# Altium footprint library Empreintes_LIB_atelier1A.PcbLib: 73 footprints (part 5 of 5)
Each footprint in its own frame and in the unit in brackets; x right, y up, seen from the top. Pads: shape width x height; smd on the part's side, far side on the other; paste and mask are expansions set on the pad; w line width, h text height; cw(c..) or ccw(c..) is an arc to the next point about the centre after c.
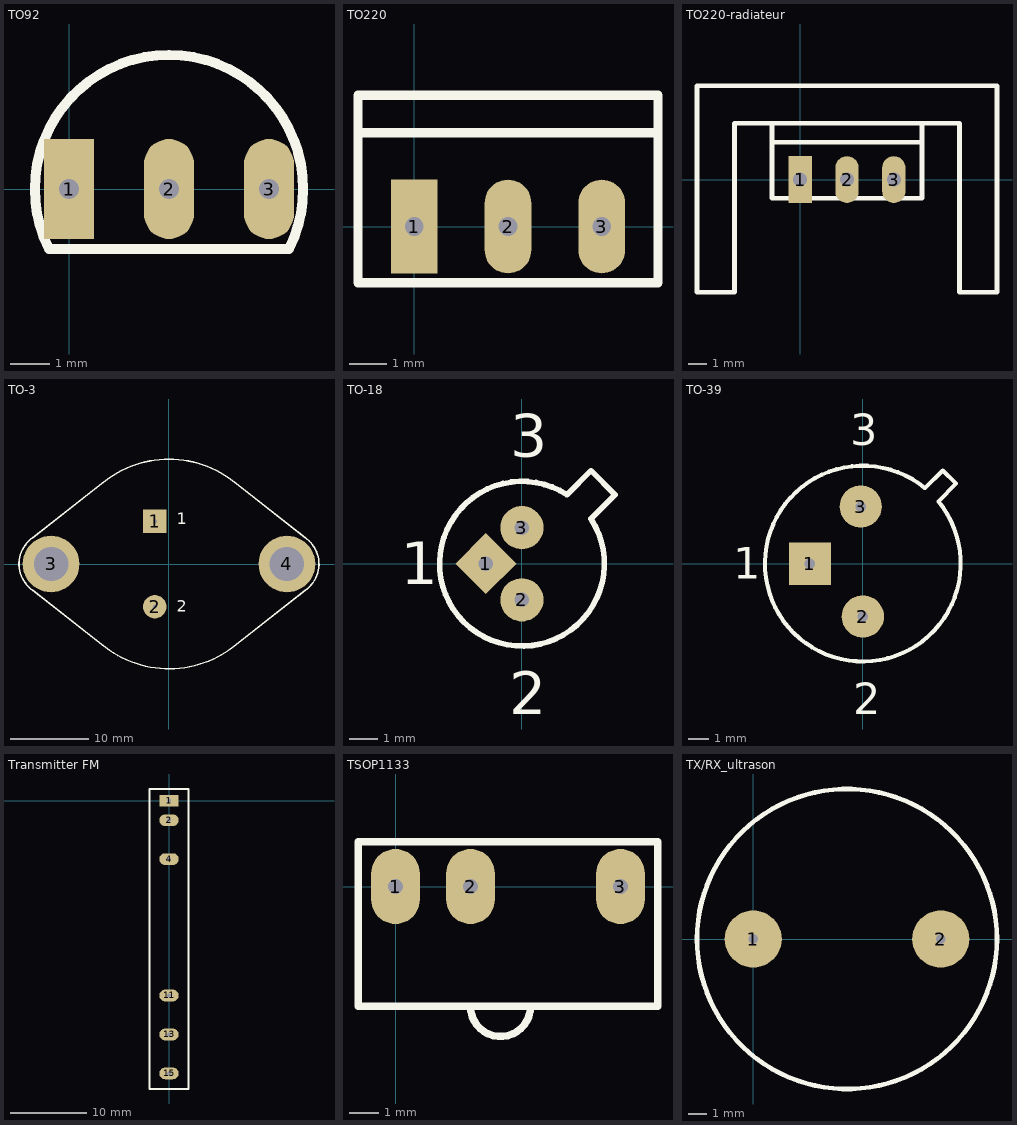
[diagram p4: the footprints below, top view; thin cyan lines are the x and y axes]

## TO92 [mil]
pads (3):
  rect 50x100 hole 20: 1(0,0)
  oval 50x100 hole 20: 2(100,0) 3(200,0)
TopOverlay:
  lines w10: -20,-60 cw(c100,0) 220,-60 -20,-60

## TO220 [mil]
pads (3):
  rect 50x100 hole 20: 1(0,0)
  oval 50x100 hole 20: 2(100,0) 3(200,0)
TopOverlay:
  lines w10: -60,100 260,100 ; -60,-60 -60,140 260,140 260,-60 -60,-60

## TO220-radiateur [mil]
pads (3):
  rect 50x100 hole 30: 1(0,0)
  oval 50x100 hole 30: 2(100,0) 3(200,0)
TopOverlay:
  lines w10: -60,80 260,80 ; -220,-240 -140,-240 -140,120 340,120 340,-240 420,-240 420,200 -220,200 -220,-240 ; -60,-40 260,-40 260,120 -60,120 -60,-40

## TO-3 [mm] "Oval Flange Mount with (2) Offset Leads; Pin Spacing 10.92 mm; Lead Dia. 1.15 mm (max)"
height 8.92
pads (4):
  rect 3x3 hole 0.508: 1(-1.815,5.46)
  round 3 hole 0.508: 2(-1.815,-5.46)
  round 7.25 hole 4.4: 3(-15.075,0) 4(15.075,0)
TopOverlay:
  lines w0.2: -17.427,-3.359 -8.299,-10.521 ; -17.427,-3.358 cw(c-15.075,0) -17.427,3.359 -8.299,10.521 ; -8.613,-10.265 ccw(c0,0) 8.298,-10.521 17.427,-3.359 ; -8.613,10.265 cw(c0,0) 8.613,10.265 ; 8.299,10.521 17.427,3.359 ; 17.308,3.439 cw(c15.075,0) 17.427,-3.358
  text "2" at 1.016,-6.096 h1.5
  text "1" at 1.016,5.08 h1.5

## TO-18 [mil] "Can; 3 Leads; Pin Circle Dia. 2.54 mm; Lead Dia. 0.49 mm (max)"
height 208.66
pads (3):
  rect 60x60 hole 20 rot 45: 1(-50,0)
  round 60 hole 20: 2(0,-50) 3(0,50)
TopOverlay:
  lines w7.87: 62.28,95.69 ccw(c0,0) 95.69,62.28 129.1,95.69 95.69,129.1 62.28,95.69
  text "3" at -16.5,148.5 h59.05
  text "2" at -17.44,-208.31 h59.05
  text "1" at -167.79,-28.27 h59.05

## TO-39 [mil] "Can; 3 Leads; Pin Circle Dia. 5.08 mm; Lead Dia. 0.49 mm (max)"
height 259.84
pads (3):
  rect 80x80 hole 20: 1(-100,0)
  round 80 hole 20: 2(0,-100) 3(-3.94,107.87)
TopOverlay:
  lines w7.87: 117.71,142.77 ccw(c0,0) 142.77,117.71 176.18,151.12 151.12,176.18 117.71,142.77
  text "1" at -244.84,-28.86 h59.05
  text "2" at -18.46,-284.25 h59.05
  text "3" at -23.43,223.74 h59.05

## Transmitter FM [mil]
pads (6):
  rect 100x60 hole 20: 1(0,0)
  oval 100x60 hole 20: 2(0,-100) 4(0,-300) 11(0,-1000) 13(0,-1200) 15(0,-1400)
TopOverlay:
  lines w10: -100,-1480 100,-1480 100,20 100,60 -100,60 -100,20 -100,-1480

## TSOP1133 [mil]
pads (3):
  oval 65x100 hole 20: 1(0,0) 2(100,0) 3(300,0)
TopOverlay:
  lines w10: 100,-160 ccw(c140,-160) 180,-160 ; -50,-160 -50,60 343.7,60 350,60 350,-160 -50,-160

## TX/RX_ultrason [mil]
pads (2):
  round 120 hole 20: 1(0,0) 2(393.7,0)
TopOverlay:
  circle w10: c196.85,0 r314.96